# EAGLE library part LM3668 (library hybridpi)
1A Buck-Boost DC/DC Converter Internal FETs Datsheet: LM3668 <http://www.ti.com/lit/ds/symlink/lm3668.pdf>
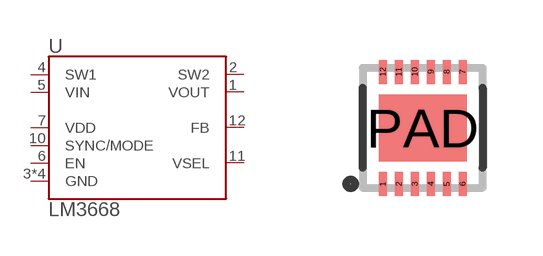
[diagram p8: symbol with the pads of WSON-12; footprint WSON-12]

Designator prefix U

## LM3668-3034 (EAGLEUP: WSON-12-3p1x3p1; VENDOR: DIGI-KEY; VENDOR_PN: LM3668SD-3034/NOPBCT-ND)  [WSON-12]
1  VOUT
2  SW2
3  GND
4  SW1
5  VIN
6  EN
7  VDD
8  GND
9  GND
10  SYNC/MODE
11  VSEL
12  FB
PAD  GND

## Footprint WSON-12 (pad centres in mm)
smd 0.2 x 0.6: 1 -1,-1.405; 2 -0.6,-1.405; 3 -0.2,-1.405; 4 0.2,-1.405; 5 0.6,-1.405; 6 1,-1.405; 7 1,1.405; 8 0.6,1.405; 9 0.2,1.405; 10 -0.2,1.405; 11 -0.6,1.405; 12 -1,1.405
smd 2.2 x 1.68: PAD 0,0